# Altium footprint library PCB_LIB.PcbLib: 86 footprints (part 5 of 6)
Each footprint in its own frame and in the unit in brackets; x right, y up, seen from the top. Pads: shape width x height; smd on the part's side, far side on the other; paste and mask are expansions set on the pad; w line width, h text height; cw(c..) or ccw(c..) is an arc to the next point about the centre after c.
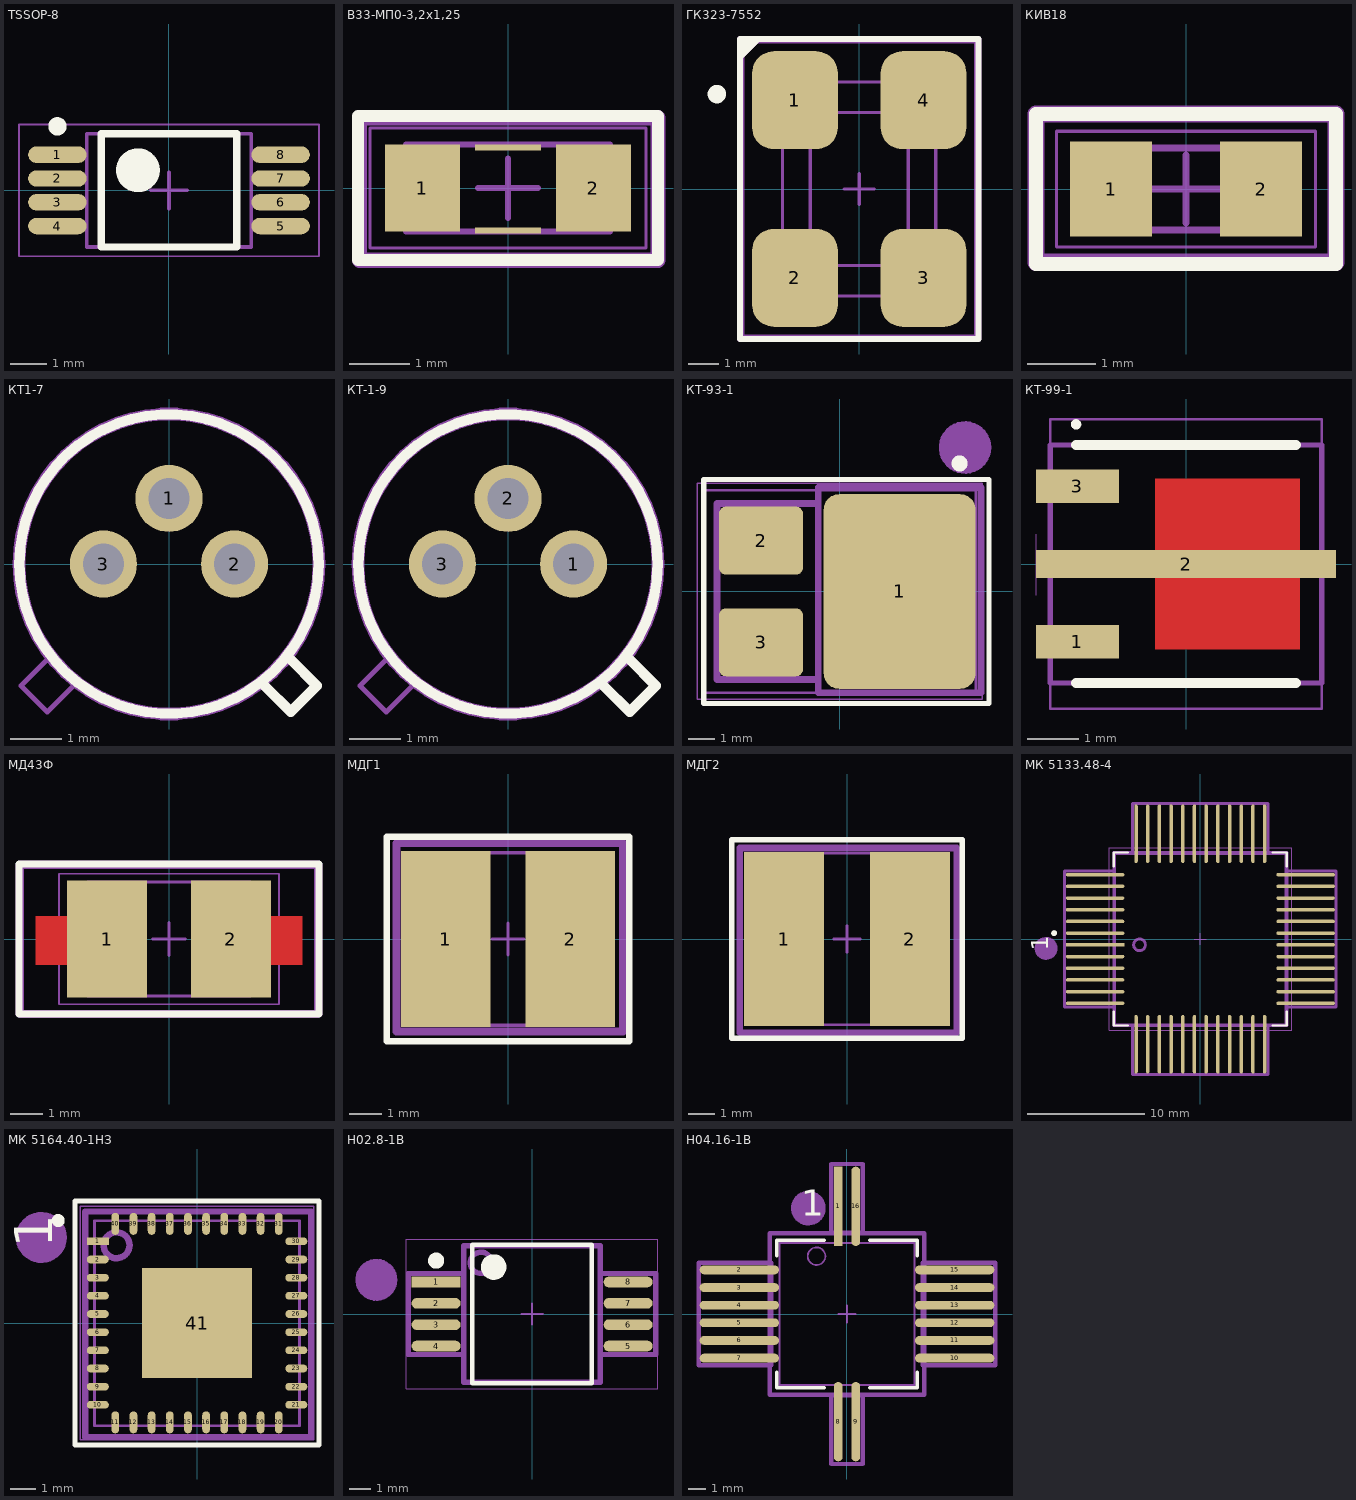
[diagram p4: the footprints below, top view; thin cyan lines are the x and y axes]

## TSSOP-8 [mm] "TSOP, 8-Leads, Body 3,00x4,40mm, Pitch 0,65mm, IPC Medium Density"
height 1.2
pads (8):
  oval 1.6x0.45 smd: 1(-3.05,0.975) 2(-3.05,0.325) 3(-3.05,-0.325) 4(-3.05,-0.975) 5(3.05,-0.975) 6(3.05,-0.325) 7(3.05,0.325) 8(3.05,0.975)
Top Overlay:
  circle w0.25: c-3.05,1.75 r0.125
  circle w0.6: c-0.85,0.55 r0.3
  lines w0.2: -1.85,-1.55 -1.85,1.55 1.85,1.55 1.85,-1.55 -1.85,-1.55
Top Sborka:
  lines w0.1: -2.25,-1.55 -2.25,1.55 2.25,1.55 2.25,-1.55 -2.25,-1.55
Mechanical 15:
  lines w0.05: -4.1,-1.8 -4.1,1.8 4.1,1.8 4.1,-1.8 -4.1,-1.8
  lines w0.1: -0.5,0 0.5,0 ; 0,-0.5 0,0.5
Top Designator (Mech16):
  text ".Designator" at -5.15,-0.547 h2.5
3D body "TSSOP-8.step": height 1.2, standoff 0, extent -3.2,-1.55 3.2,1.55

## В33-МП0-3,2х1,25 [mm] "Chip Capacitor, 2-Leads, Body 3,20x1,25mm, IPC Medium Density"
height 1
pads (4):
  rect 1.25x1.45 smd: 1(-1.425,0) 2(1.425,0)
  rect 1.1x0.1 smd: 3(0,-0.7) 3(0,0.675)
Top Overlay:
  lines w0.2: -2.5,-1.2 2.5,-1.2 2.5,1.2 -2.5,1.2 -2.5,-1.2
Top Sborka:
  lines w0.254: -2.475,-1.2 2.5,-1.2 2.5,1.175 -2.475,1.175 -2.475,-1.2
Mechanical 13:
  lines w0.1: -1.7,-0.725 1.7,-0.725 1.7,0.725 -1.7,0.725 -1.7,-0.725
Mechanical 15:
  lines w0.05: -2.3,-1 -2.3,1 2.3,1 2.3,-1 -2.3,-1
  lines w0.1: -0.5,0 0.5,0 ; 0,-0.5 0,0.5
Top Designator (Mech16):
  text ".Designator" at -5.15,-0.547 h2.5
3D body: height 1, standoff 0, extent -1.7,-0.725 -1.3,0.725
3D body: height 1, standoff 0, extent 1.3,-0.725 1.7,0.725
3D body: height 1, standoff 0, extent -1.3,-0.725 1.3,0.725

## ГК323-7552 [mm]
pads (4):
  rrect50% 2.8x3.2 smd: 1(-2.1,2.9) 2(-2.1,-2.9) 3(2.1,-2.9) 4(2.1,2.9)
Top Overlay:
  circle w0.5: c-4.65,3.1 r0.05
  lines w0.2: -3.9,4.3 -3.3,4.9 ; -3.9,4.5 -3.5,4.9 ; -3.9,4.7 -3.7,4.9 ; -3.9,-4.9 3.9,-4.9 3.9,4.9 -3.9,4.9 -3.9,-4.9
Top Sborka:
  lines w0.2: -3.9,4.3 -3.3,4.9 ; -3.9,4.5 -3.5,4.9 ; -3.9,4.7 -3.7,4.9 ; -3.9,-4.9 3.9,-4.9 3.9,4.9 -3.9,4.9 -3.9,-4.9
Mechanical 13:
  lines w0.1: -2.5,-3.5 2.5,-3.5 2.5,3.5 -2.5,3.5 -2.5,-3.5 ; -1.6,-2.5 1.6,-2.5 1.6,2.5 -1.6,2.5 -1.6,-2.5
Mechanical 15:
  lines w0.1: -0.5,0 0.5,0 ; 0,-0.5 0,0.5 ; -3.8,-4.8 3.8,-4.8 3.8,4.8 -3.8,4.8 -3.8,-4.8
Top Designator (Mech16):
  text ".Designator" at -5.15,-0.547 h2.5
3D body: height 1.9, standoff 0, extent -1.6,-2.5 1.6,2.5

## КИВ18 [mm]
height 0.8
pads (2):
  rect 1.2x1.4 smd: 1(-1.1,0) 2(1.1,0)
Top Overlay:
  lines w0.2: -2.2,-1.1 2.2,-1.1 2.2,1.1 -2.2,1.1 -2.2,-1.1
Top Sborka:
  lines w0.254: -2.2,-1.075 2.2,-1.075 2.2,1.1 -2.2,1.1 -2.2,-1.075
Mechanical 13:
  lines w0.1: -1.05,-0.6 -1.05,0.6 1.05,0.6 1.05,-0.6 -1.05,-0.6
Mechanical 15:
  lines w0.05: -1.9,-0.85 1.9,-0.85 1.9,0.85 -1.9,0.85 -1.9,-0.85
  lines w0.1: -0.5,0 0.5,0 ; 0,-0.5 0,0.5
Top Designator (Mech16):
  text ".Designator" at -5.15,-0.547 h2.5
3D body "C0603.step": height 0.8, standoff 0, extent -1.05,-0.6 1.05,0.6

## КТ1-7 [mm] "TO18, TO-206AA, TO52, TO46, DIA: 5.5mm"
pads (3):
  round 1.3 hole 0.8: 1(0,1.27) 2(1.27,0) 3(-1.27,0)
Top Overlay:
  circle w0.2: c0,0 r2.9
  lines w0.2: 1.851,-2.359 2.359,-2.867 2.867,-2.359 2.359,-1.851
Top Sborka:
  circle w0.25: c0,0 r2.907
  lines w0.1: -2.359,-1.851 -2.867,-2.359 -2.359,-2.867 -1.851,-2.359
Top Designator (Mech16):
  text ".Designator" at -5.15,-0.55 h2.5
3D body "User Library-TO-18 (KT-1).STEP": height 6.2, standoff -2.5, extent -2.795,-3.037 3.031,2.8

## КТ-1-4.03Н [mm]
Top Designator (Mech16):
  text ".Designator" at -5.162,-0.56 h2.5

## КТ-1-9 [mm] "TO18, TO-206AA, TO52, TO46, DIA: 5.5mm"
pads (3):
  round 1.3 hole 0.8: 1(1.27,0) 2(0,1.27) 3(-1.27,0)
Top Overlay:
  circle w0.2: c0,0 r2.9
  lines w0.2: 1.851,-2.359 2.359,-2.867 2.867,-2.359 2.359,-1.851
Top Sborka:
  circle w0.25: c0,0 r2.907
  lines w0.1: -2.359,-1.851 -2.867,-2.359 -2.359,-2.867 -1.851,-2.359
Top Designator (Mech16):
  text ".Designator" at -5.15,-0.55 h2.5
3D body "User Library-TO-18 (KT-1).STEP": height 6.2, standoff -2.5, extent -2.795,-3.037 3.031,2.8

## КТ-93-1 [mm] "DFN, 3-Leads, Body 7,50x10,10mm, Pitch 5,20mm, IPC Medium Density"
height 3.05
pads (3):
  rrect20% 5.7x7.3 smd: 1(2.25,0)
  rrect20% 3.15x2.55 smd: 2(-2.95,1.905) 3(-2.95,-1.905)
Top Overlay:
  circle w0.5: c4.5,4.8 r0.05
  lines w0.2: -5.1,-4.2 5.6,-4.2 5.6,4.2 -5.1,4.2 -5.1,-4.2
Top Sborka:
  circle w0.25: c4.7,5.4 r0.704
  circle w0.25: c4.7,5.4 r0.292
  circle w0.25: c4.7,5.4 r0.861
  circle w0.25: c4.7,5.4 r0.506
  circle w0.25: c4.7,5.4 r0.09
  circle w0.8: c4.7,5.4 r0.4
  lines w0.25: -4.6,-3.3 -0.8,-3.3 -0.8,3.3 -4.6,3.3 -4.6,-3.3 ; -0.8,-3.8 5.3,-3.8 5.3,3.9 -0.8,3.9 -0.8,-3.8
Mechanical 13:
  lines w0.1: -5.1,-3.8 -5.1,3.8 5.1,3.8 5.1,-3.8 -5.1,-3.8
Mechanical 15:
  lines w0.05: -5.35,-4.05 -5.35,4.05 5.35,4.05 5.35,-4.05 -5.35,-4.05
  lines w0.1: -0.5,0 0.5,0 ; 0,-0.5 0,0.5
Top Designator (Mech16):
  text ".Designator" at -5.15,-0.547 h2.5
3D body: height 3.05, standoff 0.4, extent -5.1,-3.8 5.1,3.8

## КТ-99-1 [mm] "DFN, 3-Leads, Body 4,51x4,16mm, Pitch 2,35mm, IPC Low Density"
height 1.6
pads (3):
  rect 1.6x0.65 smd: 1(-2.1,-1.5) 3(-2.1,1.5)
  rect 5.8x0.55 smd: 2(0,0)
Top Layer:
  rectangle: -0.6,-1.65 2.2,1.65
  rectangle: -1.325,-0.275 -0.525,0.275
Top Overlay:
  circle w0.1: c-2.125,2.7 r0.05
  lines w0.2: -2.125,-2.3 2.125,-2.3 ; -2.125,2.3 2.125,2.3
Top Solder:
  rectangle: -0.7,-1.8 2.3,1.8
Top Sborka:
  lines w0.01: -2.9,-0.6 -2.9,0.575
  lines w0.1: -2.625,-2.3 2.625,-2.3 2.625,2.3 -2.625,2.3 -2.625,-2.3
Mechanical 15:
  lines w0.05: -2.625,-2.8 -2.625,2.8 2.625,2.8 2.625,-2.8 -2.625,-2.8
  lines w0.1: -0.5,0 0.5,0 ; 0,-0.5 0,0.5
Top Designator (Mech16):
  text ".Designator" at -5.15,-0.547 h2.5
3D body: height 1.6, standoff 0.1, extent -2.125,-2.3 2.125,2.3

## МД43Ф [mm] "Precision Wire Wound Inductor, 2-Leads, Body 5,00x3,50mm, IPC Medium Density"
height 2.8
pads (2):
  rect 2.45x3.6 smd: 1(-1.9,0) 2(1.9,0)
Top Layer:
  region: 4.1,0.7 2.9,0.7 2.9,-0.8 4.1,-0.8
  rectangle: -4.1,-0.8 -2.9,0.7
Top Overlay:
  lines w0.2: -4.6,-2.3 4.6,-2.3 4.6,2.3 -4.6,2.3 -4.6,-2.3
Top Solder:
  region: 4.2,0.8 3.2,0.8 3.2,-0.9 4.2,-0.9
  rectangle: -4.2,-0.9 -3.2,0.8
Top Sborka:
  lines w0.25: -4.575,-2.3 -4.575,2.275 -3.025,2.275 4.575,2.275 4.575,0.9 4.575,-1 4.575,-2.3 -3,-2.3 -4.575,-2.3
Mechanical 13:
  lines w0.1: -2.5,-1.75 2.5,-1.75 2.5,1.75 -2.5,1.75 -2.5,-1.75
Mechanical 15:
  lines w0.05: -3.375,-2 3.375,-2 3.375,2 -3.375,2 -3.375,-2
  lines w0.1: -0.5,0 0.5,0 ; 0,-0.5 0,0.5
Top Designator (Mech16):
  text ".Designator" at -5.15,-0.547 h2.5
3D body: height 2.8, standoff 0, extent -2.5,-1.75 2.5,1.75

## МДГ1 [mm] "Precision Wire Wound Inductor, 2-Leads, Body 5,40x5,40mm, IPC Medium Density"
height 4.8
pads (2):
  rect 2.8x5.5 smd: 1(-1.95,0) 2(1.95,0)
Top Overlay:
  lines w0.2: -3.8,-3.2 3.8,-3.2 3.8,3.2 -3.8,3.2 -3.8,-3.2
Top Sborka:
  lines w0.25: -3.5,-2.9 3.6,-2.9 3.6,3 -3.5,3 -3.5,-2.9
Mechanical 13:
  lines w0.1: -2.7,-2.7 2.7,-2.7 2.7,2.7 -2.7,2.7 -2.7,-2.7
Mechanical 15:
  lines w0.05: -3.575,-2.95 3.575,-2.95 3.575,2.95 -3.575,2.95 -3.575,-2.95
  lines w0.1: -0.5,0 0.5,0 ; 0,-0.5 0,0.5
Top Designator (Mech16):
  text ".Designator" at -5.15,-0.547 h2.5
3D body: height 4.8, standoff 0, extent -2.7,-2.7 2.7,2.7

## МДГ2 [mm] "Precision Wire Wound Inductor, 2-Leads, Body 6,40x6,40mm, IPC Medium Density"
height 6
pads (2):
  rect 3x6.5 smd: 1(-2.35,0) 2(2.35,0)
Top Overlay:
  lines w0.2: -4.3,-3.7 4.3,-3.7 4.3,3.7 -4.3,3.7 -4.3,-3.7
Top Sborka:
  lines w0.25: -4,-3.5 4.1,-3.5 4.1,3.4 -4,3.4 -4,-3.5
Mechanical 13:
  lines w0.1: -3.2,-3.2 3.2,-3.2 3.2,3.2 -3.2,3.2 -3.2,-3.2
Mechanical 15:
  lines w0.05: -4.075,-3.45 4.075,-3.45 4.075,3.45 -4.075,3.45 -4.075,-3.45
  lines w0.1: -0.5,0 0.5,0 ; 0,-0.5 0,0.5
Top Designator (Mech16):
  text ".Designator" at -5.15,-0.547 h2.5
3D body: height 6, standoff 0, extent -3.2,-3.2 3.2,3.2

## МК 5133.48-4 [mm] "QFN, 48-Leads, Body 14,25x14,25mm, Pitch 1,00mm, IPC Medium Density"
height 3
pads (48):
  rect 5x0.3 smd: 1(-9,-0.5)
  oval 5x0.3 smd: 2(-9,-1.5) 3(-9,-2.5) 4(-9,-3.5) 5(-9,-4.5) 6(-9,-5.5) 19(9,-5.5) 20(9,-4.5) 21(9,-3.5) 22(9,-2.5) 23(9,-1.5) 24(9,-0.5) 25(9,0.5) 26(9,1.5) 27(9,2.5) 28(9,3.5) 29(9,4.5) 30(9,5.5) 43(-9,5.5) 44(-9,4.5) 45(-9,3.5) 46(-9,2.5) 47(-9,1.5) 48(-9,0.5)
  oval 0.3x5 smd: 7(-5.5,-9) 8(-4.5,-9) 9(-3.5,-9) 10(-2.5,-9) 11(-1.5,-9) 12(-0.5,-9) 13(0.5,-9) 14(1.5,-9) 15(2.5,-9) 16(3.5,-9) 17(4.5,-9) 18(5.5,-9) 31(5.5,9) 32(4.5,9) 33(3.5,9) 34(2.5,9) 35(1.5,9) 36(0.5,9) 37(-0.5,9) 38(-1.5,9) 39(-2.5,9) 40(-3.5,9) 41(-4.5,9) 42(-5.5,9)
Top Overlay:
  circle w0.25: c-12.5,0.5 r0.125
  lines w0.2: -7.4,-6.2 -7.4,-7.4 -6.2,-7.4 ; -7.4,6.2 -7.4,7.4 -6.2,7.4 ; 6.2,-7.4 7.4,-7.4 7.4,-6.2 ; 6.2,7.4 7.4,7.4 7.4,6.2
  text "1" at -12.5,-1 h2.5
Top Sborka:
  circle w0.25: c-5.2,-0.5 r0.5
  circle w0.25: c-13.19,-0.8 r0.09
  circle w0.25: c-13.19,-0.8 r0.506
  circle w0.25: c-13.19,-0.8 r0.861
  circle w0.25: c-13.19,-0.8 r0.292
  circle w0.25: c-13.19,-0.8 r0.704
  lines w0.25: -11.6,-5.8 -7.4,-5.8 -7.4,5.8 -11.6,5.8 -11.6,-5.8 ; -7.4,-7.4 7.4,-7.4 7.4,7.4 -7.4,7.4 -7.4,-7.4 ; -5.8,-11.6 -5.8,-7.4 5.8,-7.4 5.8,-11.6 -5.8,-11.6 ; -5.8,7.4 -5.8,11.6 5.8,11.6 5.8,7.4 -5.8,7.4 ; 7.4,-5.8 11.6,-5.8 11.6,5.8 7.4,5.8 7.4,-5.8
Mechanical 13:
  circle w0.1: c-5.25,-0.5 r0.5
  lines w0.1: -7.25,-7.25 -7.25,7.25 7.25,7.25 7.25,-7.25 -7.25,-7.25
Mechanical 15:
  lines w0.05: -7.8,-7.8 -7.8,7.8 7.8,7.8 7.8,-7.8 -7.8,-7.8
  lines w0.1: -0.5,0 0.5,0 ; 0,-0.5 0,0.5
Top Designator (Mech16):
  text ".Designator" at -5.15,-0.547 h2.5
3D body: height 3, standoff 0.2, extent -7.25,-7.25 7.25,7.25

## МК 5164.40-1НЗ [mm] "QFN, 40-Leads, Body 7,80x7,80mm, Pitch 0,70mm, Thermal Pad 4,25x4,25mm, IPC Medium Density"
height 2
pads (41):
  rect 0.85x0.3 smd: 1(-3.825,3.15)
  oval 0.85x0.3 smd: 2(-3.825,2.45) 3(-3.825,1.75) 4(-3.825,1.05) 5(-3.825,0.35) 6(-3.825,-0.35) 7(-3.825,-1.05) 8(-3.825,-1.75) 9(-3.825,-2.45) 10(-3.825,-3.15) 21(3.825,-3.15) 22(3.825,-2.45) 23(3.825,-1.75) 24(3.825,-1.05) 25(3.825,-0.35) 26(3.825,0.35) 27(3.825,1.05) 28(3.825,1.75) 29(3.825,2.45) 30(3.825,3.15)
  oval 0.3x0.85 smd: 11(-3.15,-3.825) 12(-2.45,-3.825) 13(-1.75,-3.825) 14(-1.05,-3.825) 15(-0.35,-3.825) 16(0.35,-3.825) 17(1.05,-3.825) 18(1.75,-3.825) 19(2.45,-3.825) 20(3.15,-3.825) 31(3.15,3.825) 32(2.45,3.825) 33(1.75,3.825) 34(1.05,3.825) 35(0.35,3.825) 36(-0.35,3.825) 37(-1.05,3.825) 38(-1.75,3.825) 39(-2.45,3.825) 40(-3.15,3.825)
  rect 4.25x4.25 smd: 41(0,0)
Top Overlay:
  circle w0.25: c-5.35,3.95 r0.125
  lines w0.2: -4.7,-4.7 4.7,-4.7 4.7,4.7 -4.7,4.7 -4.7,-4.7
  text "1" at -5.1,2.9 h2.5
Top Sborka:
  circle w0.25: c-3.1,3 r0.5
  circle w0.25: c-6,3.3 r0.09
  circle w0.25: c-6,3.3 r0.506
  circle w0.25: c-6,3.3 r0.861
  circle w0.25: c-6,3.3 r0.292
  circle w0.25: c-6,3.3 r0.704
  lines w0.25: -4.3,-4.4 4.4,-4.4 4.4,4.3 -4.3,4.3 -4.3,-4.4
Mechanical 13:
  circle w0.1: c-3.05,3.05 r0.5
  lines w0.1: -3.95,-3.95 -3.95,3.95 3.95,3.95 3.95,-3.95 -3.95,-3.95
Mechanical 15:
  lines w0.05: -4.5,-4.5 -4.5,4.5 4.5,4.5 4.5,-4.5 -4.5,-4.5
  lines w0.1: -0.5,0 0.5,0 ; 0,-0.5 0,0.5
Top Designator (Mech16):
  text ".Designator" at -5.15,-0.547 h2.5
3D body: height 2, standoff 0, extent -3.95,-3.95 3.95,3.95

## Н02.8-1В [mm] "CFP, 8-Leads, Body 6,50x6,50mm (max), Pitch 1,00mm, IPC Medium Density"
height 2.9
pads (8):
  rect 2.3x0.5 smd: 1(-4.5,1.5)
  oval 2.3x0.5 smd: 2(-4.5,0.5) 3(-4.5,-0.5) 4(-4.5,-1.5) 5(4.5,-1.5) 6(4.5,-0.5) 7(4.5,0.5) 8(4.5,1.5)
Top Overlay:
  circle w0.5: c-4.5,2.5 r0.125
  circle w0.6: c-1.8,2.2 r0.3
  lines w0.2: -2.8,-3.25 2.8,-3.25 2.8,3.25 -2.8,3.25 -2.8,-3.25
Top Sborka:
  circle w0.25: c-7.3,1.6 r0.704
  circle w0.25: c-7.3,1.6 r0.292
  circle w0.25: c-7.3,1.6 r0.861
  circle w0.25: c-7.3,1.6 r0.506
  circle w0.25: c-7.3,1.6 r0.09
  circle w0.25: c-2.4,2.4 r0.5
  circle w0.8: c-7.3,1.6 r0.4
  lines w0.25: -5.8,-1.9 -3.2,-1.9 -3.2,1.9 -5.8,1.9 -5.8,-1.9 ; -3.2,-3.2 3.2,-3.2 3.2,3.2 -3.2,3.2 -3.2,-3.2 ; 3.2,-1.9 5.8,-1.9 5.8,1.9 3.2,1.9 3.2,-1.9
Mechanical 13:
  circle w0.1: c-2.35,2.35 r0.5
  lines w0.1: -3.25,-3.25 3.25,-3.25 3.25,3.25 -3.25,3.25 -3.25,-3.25
Mechanical 15:
  lines w0.05: -5.9,-3.5 5.9,-3.5 5.9,3.5 -5.9,3.5 -5.9,-3.5
  lines w0.1: -0.5,0 0.5,0 ; 0,-0.5 0,0.5
Top Designator (Mech16):
  text ".Designator" at -5.15,-0.547 h2.5
3D body "CFP100P1020X290-8N.step": height 2.7, standoff 0, extent -5.24,-3.25 5.24,3.25

## Н04.16-1В [mm]
height 2.9
pads (16):
  rect 0.5x4.5 smd: 1(-0.5,6.1)
  oval 4.5x0.5 smd: 2(-6.1,2.5) 3(-6.1,1.5) 4(-6.1,0.5) 5(-6.1,-0.5) 6(-6.1,-1.5) 7(-6.1,-2.5) 10(6.1,-2.5) 11(6.1,-1.5) 12(6.1,-0.5) 13(6.1,0.5) 14(6.1,1.5) 15(6.1,2.5)
  oval 0.5x4.5 smd: 8(-0.5,-6.1) 9(0.5,-6.1) 16(0.5,6.1)
Top Overlay:
  lines w0.2: -3.975,-3.3 -3.975,-4.175 -1.3,-4.175 ; -3.975,3.3 -3.975,4.175 -1.3,4.175 ; 1.3,-4.175 3.975,-4.175 3.975,-3.3 ; 1.3,4.175 3.975,4.175 3.975,3.3
  text "1" at -2.59,5.1 h2.5
Top Sborka:
  circle w0.25: c-2.19,6 r0.506
  circle w0.25: c-2.19,6 r0.292
  circle w0.25: c-2.19,6 r0.09
  circle w0.25: c-2.19,6 r0.704
  circle w0.8: c-2.19,6 r0.4
  circle w0.25: c-2.19,6 r0.861
  lines w0.25: -8.4,-2.9 -4.3,-2.9 -4.3,2.9 -8.4,2.9 -8.4,-2.9 ; -4.375,-4.575 4.375,-4.575 4.375,4.575 -4.375,4.575 -4.375,-4.575 ; -0.9,-8.5 -0.9,-4.6 0.9,-4.6 0.9,-8.5 -0.9,-8.5 ; -0.9,4.6 0.9,4.6 0.9,8.5 -0.9,8.5 -0.9,4.6 ; 4.3,-2.9 8.4,-2.9 8.4,2.9 4.3,2.9 4.3,-2.9
Mechanical 13:
  circle w0.1: c-1.725,3.275 r0.5
  lines w0.1: -3.825,-4.025 -3.825,4.025 3.825,4.025 3.825,-4.025 -3.825,-4.025
Mechanical 15:
  lines w0.05: -4.375,-4.575 -4.375,4.575 4.375,4.575 4.375,-4.575 -4.375,-4.575
  lines w0.1: -0.5,0 0.5,0 ; 0,-0.5 0,0.5
Top Designator (Mech16):
  text ".Designator" at -5.15,-0.547 h2.5
3D body: height 2.9, standoff 0.05, extent -3.825,-4.025 3.825,4.025